# Altium footprint library 晶振.PcbLib: 38 footprints (part 3 of 3)
Each footprint in its own frame and in the unit in brackets; x right, y up, seen from the top. Pads: shape width x height; smd on the part's side, far side on the other; paste and mask are expansions set on the pad; w line width, h text height; cw(c..) or ccw(c..) is an arc to the next point about the centre after c.
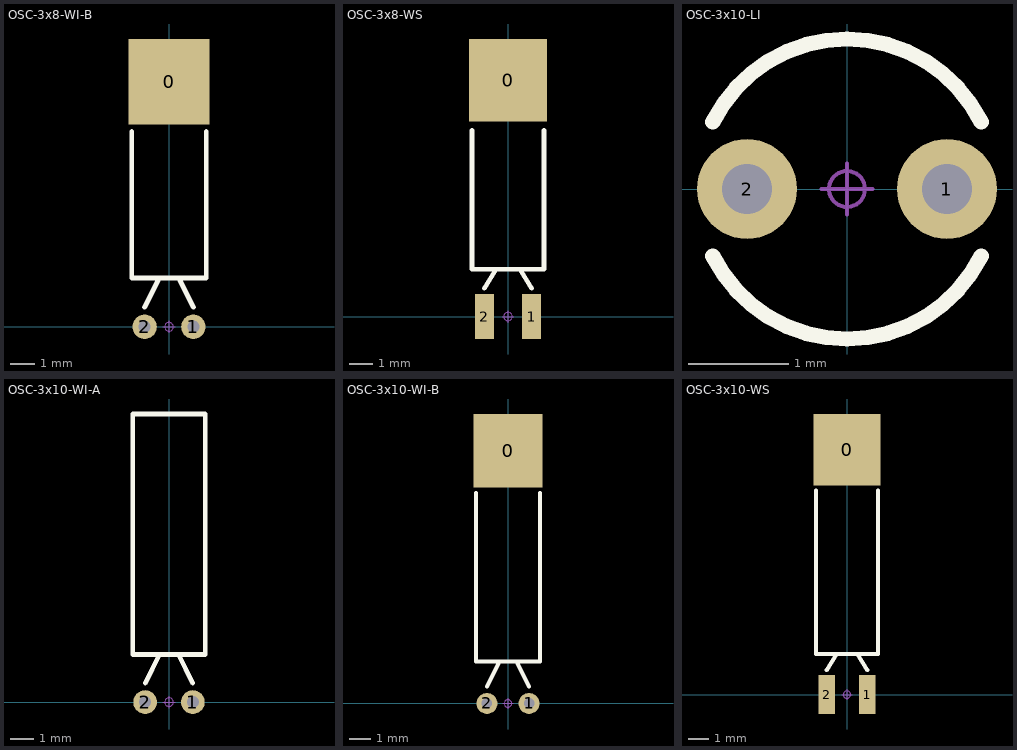
[diagram p2: the footprints below, top view; thin cyan lines are the x and y axes]

## OSC-3x8-WI-B [mm] "脚距：2mm"
pads (3):
  rect 3.3x3.5 smd: 0(0,10.033)
  round 1 hole 0.5: 1(1,0) 2(-1,0)
Top Overlay:
  lines w0.2: -1.524,8.001 -1.524,2 1.524,2 1.524,8.001 ; -1,0.8 -0.4,2 ; 0.4,2 1,0.8
Mechanical 15:
  circle w0.04: c0,0 r0.18
  lines w0.04: -0.254,0 0.254,0 ; 0,-0.254 0,0.254
3D body: height 3.03, standoff -2.6, extent -1.5,-0.179 1.5,10

## OSC-3x8-WS [mm] "脚距：2mm"
pads (3):
  rect 3.3x3.5 smd: 0(0,10)
  rect 0.8x1.9 smd: 1(1,0) 2(-1,0)
Top Overlay:
  lines w0.2: -1.524,7.874 -1.524,2 1.524,2 1.524,7.874 ; -1,1.2 -0.5,2 ; 0.5,2 1,1.2
Mechanical 15:
  circle w0.04: c0,0 r0.18
  lines w0.04: -0.254,0 0.254,0 ; 0,-0.254 0,0.254
3D body: height 3.03, standoff 0, extent -1.5,-0.501 1.5,10

## OSC-3x10-LI [mm] "脚距：2mm"
pads (2):
  round 1 hole 0.5: 1(1,0) 2(-1,0)
Top Overlay:
  lines w0.152: -1.342,-0.671 ccw(c0,0) 1.342,-0.671 ; -1.342,0.671 cw(c0,0) 1.342,0.671
Mechanical 15:
  circle w0.04: c0,0 r0.18
  lines w0.04: -0.254,0 0.254,0 ; 0,-0.254 0,0.254
3D body: height 11.1, standoff -2.5, extent -1.5,-1.5 1.5,1.5

## OSC-3x10-WI-A [mm] "脚距：2mm"
pads (2):
  round 1 hole 0.5: 1(1,0) 2(-1,0)
Top Overlay:
  lines w0.2: -1,0.8 -0.4,2 ; 0.4,2 1,0.8 ; -1.524,2 1.524,2 1.524,12.1 -1.524,12.1 -1.524,2
Mechanical 15:
  circle w0.04: c0,0 r0.18
  lines w0.04: -0.254,0 0.254,0 ; 0,-0.254 0,0.254
3D body: height 3.03, standoff -2.6, extent -1.5,-0.179 1.5,12

## OSC-3x10-WI-B [mm] "脚距：2mm"
pads (3):
  rect 3.3x3.5 smd: 0(0,12)
  round 1 hole 0.5: 1(1,0) 2(-1,0)
Top Overlay:
  lines w0.2: -1.524,10 -1.524,2 1.524,2 1.524,10 ; -1,0.8 -0.4,2 ; 0.4,2 1,0.8
Mechanical 15:
  circle w0.04: c0,0 r0.18
  lines w0.04: -0.254,0 0.254,0 ; 0,-0.254 0,0.254
3D body: height 3.03, standoff -2.6, extent -1.5,-0.179 1.5,12

## OSC-3x10-WS [mm] "脚距：2mm"
pads (3):
  rect 3.3x3.5 smd: 0(0,12)
  rect 0.8x1.9 smd: 1(1,0) 2(-1,0)
Top Overlay:
  lines w0.2: -1.524,10 -1.524,2 1.524,2 1.524,10 ; -1,1.2 -0.5,2 ; 0.5,2 1,1.2
Mechanical 15:
  circle w0.04: c0,0 r0.18
  lines w0.04: -0.254,0 0.254,0 ; 0,-0.254 0,0.254
3D body: height 3.03, standoff 0, extent -1.5,-0.501 1.5,12